# Altium footprint library fpc_12pin_06pitch.PcbLib: 1 footprints
Each footprint in its own frame and in the unit in brackets; x right, y up, seen from the top. Pads: shape width x height; smd on the part's side, far side on the other; paste and mask are expansions set on the pad; w line width, h text height; cw(c..) or ccw(c..) is an arc to the next point about the centre after c.
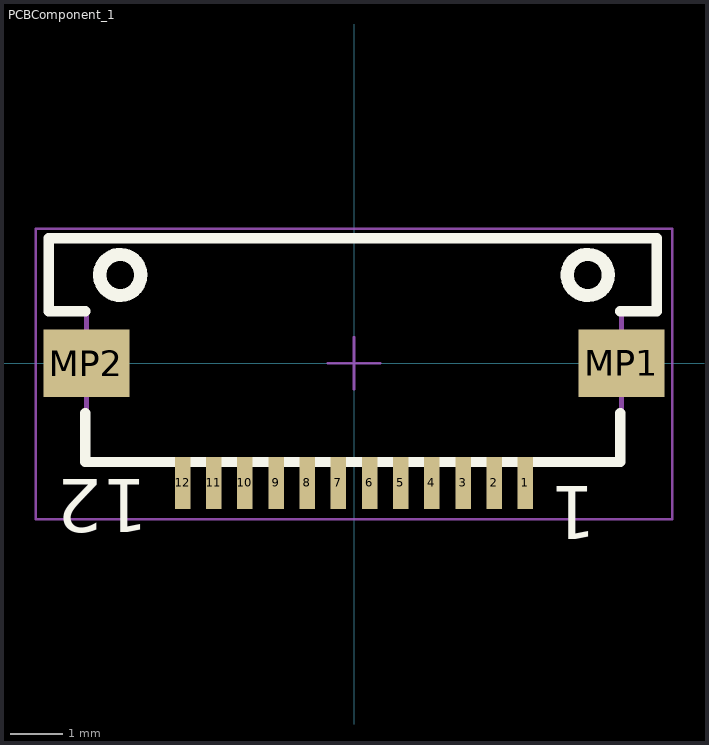
[diagram p0: the footprint, top view; thin cyan lines are the x and y axes]

## PCBComponent_1 [mm]
pads (14):
  rect 0.3x1 smd: 1(3.3,-2.3) 2(2.7,-2.3) 3(2.1,-2.3) 4(1.5,-2.3) 5(0.9,-2.3) 6(0.3,-2.3) 7(-0.3,-2.3) 8(-0.9,-2.3) 9(-1.5,-2.3) 10(-2.1,-2.3) 11(-2.7,-2.3) 12(-3.3,-2.3)
  rect 1.65x1.3 smd: MP1(5.15,0) MP2(-5.15,0)
Top Overlay:
  circle w0.254: c-4.5,1.7 r0.396
  circle w0.254: c4.5,1.7 r0.396
  lines w0.2: -5.173,-0.961 -5.173,-1.901 5.127,-1.901 5.127,-0.961 ; -5.173,0.999 -5.873,0.999 -5.873,2.409 5.827,2.409 5.827,0.999 5.127,0.999
  text "1" at 4.667,-2.365 h1.02
  text "12" at -3.957,-2.235 h1.02
Mechanical 13:
  lines w0.1: -5.85,1 -5.15,1 -5.15,-1.9 5.15,-1.9 5.15,0.999 5.85,0.999 5.85,2.409 -5.85,2.409 -5.85,1
Mechanical 15:
  lines w0.05: -6.125,2.575 -6.125,-3 6.125,-3 6.125,2.575 ; -6.125,2.588 6.125,2.588 ; -0.5,-0.001 0.5,-0.001 ; 0,-0.5 0,0.5
3D body "687112183622.stp": height 1.28, standoff -0.01, extent -5.85,-1.841 5.85,2.409